# Altium integrated library Analog Devices RF IF Timing ICs and Clocks.IntLib: 168 symbols (part 16 of 18)
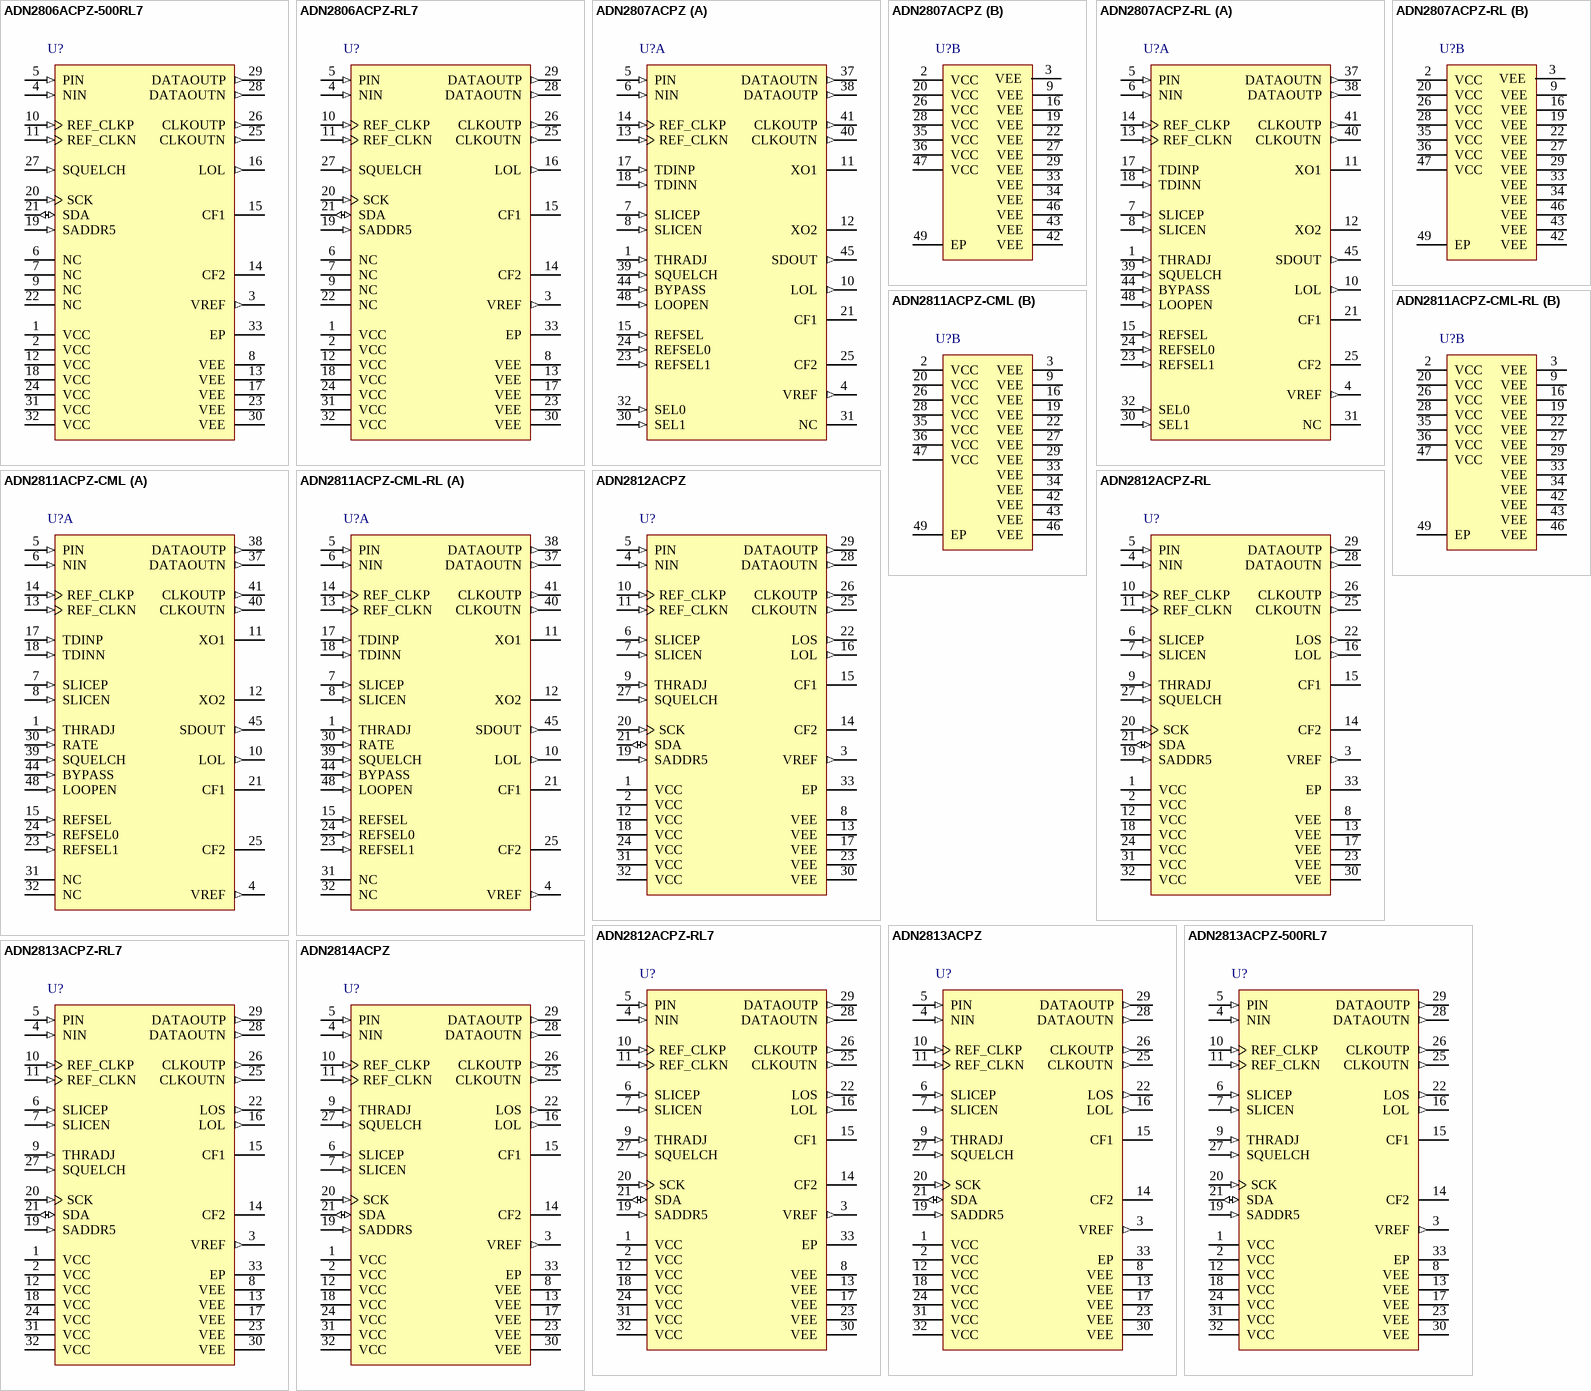
[diagram p30: symbols ADN2806ACPZ-500RL7 to ADN2814ACPZ]

## ADN2811ACPZ-CML
designator U?
OC-48/OC-48 FEC Clock and Data Recovery IC with Integrated Limiting Amp, 2.7 Gb/s Data Rate, CP-48-1, 260 Tray; Voltage Supply (V): 3.3; Data Rate (Gb/s): 2.7; Input Sensitivity (mVp-p): 4; Jitter Tolerance (Ulpp): 1.0 @ 1 MHz; Jitter Transfer: 590 kHz @ OC48; Jitter Gen (mUI rms): 2; Rate: Single; Reference Clk: X; DatasheetVersion: Rev. B; PackageVersion: Jan-2005; PackageReference: CP-48-1; PackageDescription: 48-Lead Lead Frame Chip Scale Package [LFCSP_VQ]; Code_JEDEC: MO-220-VKKD-2; ComponentLink1Description: Manufacturer URL; ComponentLink1URL: www.analog.com; ComponentLink2Description: Datasheet; ComponentLink2URL: http://www.analog.com/static/imported-files/data_sheets/ADN2811.pdf; ComponentLink3Description: Package Specification; ComponentLink3URL: http://www.analog.com/static/imported-files/packages/PKG_PDF/LFCSP(CP)/CP-48/CP_48_1.pdf
footprint ADI-CP-48-1_N (QFN, 48-Leads, Body 7x7mm, Pitch 0.5mm, Thermal Pad 5.1x5.1mm, IPC Medium Density)
footprint ADI-CP-48-1_L (QFN, 48-Leads, Body 7x7mm, Pitch 0.5mm, Thermal Pad 5.1x5.1mm, IPC High Density)
footprint ADI-CP-48-1_M (QFN, 48-Leads, Body 7x7mm, Pitch 0.5mm, Thermal Pad 5.1x5.1mm, IPC Low Density)
part A pins: 1 THRADJ (in) "LOS Threshold Setting Resistor.", 4 VREF (out) "Internal VREF Voltage. Decouple to GND with a 0.1 uF capacitor.", 5 PIN (in) "Differential Data Input. CML.", 6 NIN (in) "Differential Data Input. CML.", 7 SLICEP (in) "Differential Slice Level Adjust Input.", 8 SLICEN (in) "Differential Slice Level Adjust Input.", 10 LOL (out) "Loss of Lock Indicator. LVTTL active high.", 11 XO1 "Crystal Oscillator.", 12 XO2 "Crystal Oscillator.", 13 REF_CLKN (in) "Differential REFCLK Input. LVTTL, LVCMOS, LVPECL, LVDS (LVPECL, LVDS only at 155.52 MHz).", 14 REF_CLKP (in) "Differential REFCLK Input. LVTTL, LVCMOS, LVPECL, LVDS (LVPECL, LVDS only at 155.52 MHz).", 15 REFSEL (in) "Reference Source Select. 0 = on-chip oscillator with external crystal; 1 = external clock source, LVTTL.", 17 TDINP (in) "Differential Test Data Input.", 18 TDINN (in) "Differential Test Data Input.", 21 CF1 "Frequency Loop Capacitor.", 23 REFSEL1 (in) "Reference Frequency Select (See Table 5) LVTTL.", 24 REFSEL0 (in) "Reference Frequency Select (See Table 5) LVTTL.", 25 CF2 "Frequency Loop Capacitor.", 30 RATE (in) "Data Rate Select (See Table 4) LVTTL.", 31 NC "No Connect.", 32 NC "No Connect.", 37 DATAOUTN (out) "Differential Retimed Data Output. CML.", 38 DATAOUTP (out) "Differential Retimed Data Output. CML.", 39 SQUELCH (in) "Disable Clock and Data Outputs. Active high. LVTTL.", 40 CLKOUTN (out) "Differential Recovered Clock Output. CML.", 41 CLKOUTP (out) "Differential Recovered Clock Output. CML.", 44 BYPASS (in) "Bypass CDR Mode. Active high. LVTTL", 45 SDOUT (out) "Loss of Signal Detect Output. Active high. LVTTL.", 48 LOOPEN (in) "Enable Test Data Inputs. Active high. LVTTL."
part B pins: 2 VCC (power) "Analog Supply.", 3 VEE (power) "Ground.", 9 VEE (power) "Ground.", 16 VEE (power) "Ground.", 19 VEE (power) "Ground.", 20 VCC (power) "Digital Supply.", 22 VEE (power) "Ground.", 26 VCC (power) "Analog Supply.", 27 VEE (power) "Ground.", 28 VCC (power) "Analog Supply.", 29 VEE (power) "Ground.", 33 VEE (power) "Ground.", 34 VEE (power) "Ground.", 35 VCC (power) "Output Driver Supply.", 36 VCC (power) "Output Driver Supply.", 42 VEE (power) "Ground.", 43 VEE (power) "Ground.", 46 VEE (power) "Ground.", 47 VCC (power) "Digital Supply.", 49 EP (power) "Expose Pad"

## ADN2811ACPZ-CML-RL
designator U?
OC-48/OC-48 FEC Clock and Data Recovery IC with Integrated Limiting Amp, 2.7 Gb/s Data Rate, CP-48-1, Reel; Voltage Supply (V): 3.3; Data Rate (Gb/s): 2.7; Input Sensitivity (mVp-p): 4; Jitter Tolerance (Ulpp): 1.0 @ 1 MHz; Jitter Transfer: 590 kHz @ OC48; Jitter Gen (mUI rms): 2; Rate: Single; Reference Clk: X; DatasheetVersion: Rev. B; PackageVersion: Jan-2005; PackageReference: CP-48-1; PackageDescription: 48-Lead Lead Frame Chip Scale Package [LFCSP_VQ]; Code_JEDEC: MO-220-VKKD-2; ComponentLink1Description: Manufacturer URL; ComponentLink1URL: www.analog.com; ComponentLink2Description: Datasheet; ComponentLink2URL: http://www.analog.com/static/imported-files/data_sheets/ADN2811.pdf; ComponentLink3Description: Package Specification; ComponentLink3URL: http://www.analog.com/static/imported-files/packages/PKG_PDF/LFCSP(CP)/CP-48/CP_48_1.pdf
footprint ADI-CP-48-1_N (QFN, 48-Leads, Body 7x7mm, Pitch 0.5mm, Thermal Pad 5.1x5.1mm, IPC Medium Density)
footprint ADI-CP-48-1_L (QFN, 48-Leads, Body 7x7mm, Pitch 0.5mm, Thermal Pad 5.1x5.1mm, IPC High Density)
footprint ADI-CP-48-1_M (QFN, 48-Leads, Body 7x7mm, Pitch 0.5mm, Thermal Pad 5.1x5.1mm, IPC Low Density)
part A pins: 1 THRADJ (in) "LOS Threshold Setting Resistor.", 4 VREF (out) "Internal VREF Voltage. Decouple to GND with a 0.1 uF capacitor.", 5 PIN (in) "Differential Data Input. CML.", 6 NIN (in) "Differential Data Input. CML.", 7 SLICEP (in) "Differential Slice Level Adjust Input.", 8 SLICEN (in) "Differential Slice Level Adjust Input.", 10 LOL (out) "Loss of Lock Indicator. LVTTL active high.", 11 XO1 "Crystal Oscillator.", 12 XO2 "Crystal Oscillator.", 13 REF_CLKN (in) "Differential REFCLK Input. LVTTL, LVCMOS, LVPECL, LVDS (LVPECL, LVDS only at 155.52 MHz).", 14 REF_CLKP (in) "Differential REFCLK Input. LVTTL, LVCMOS, LVPECL, LVDS (LVPECL, LVDS only at 155.52 MHz).", 15 REFSEL (in) "Reference Source Select. 0 = on-chip oscillator with external crystal; 1 = external clock source, LVTTL.", 17 TDINP (in) "Differential Test Data Input.", 18 TDINN (in) "Differential Test Data Input.", 21 CF1 "Frequency Loop Capacitor.", 23 REFSEL1 (in) "Reference Frequency Select (See Table 5) LVTTL.", 24 REFSEL0 (in) "Reference Frequency Select (See Table 5) LVTTL.", 25 CF2 "Frequency Loop Capacitor.", 30 RATE (in) "Data Rate Select (See Table 4) LVTTL.", 31 NC "No Connect.", 32 NC "No Connect.", 37 DATAOUTN (out) "Differential Retimed Data Output. CML.", 38 DATAOUTP (out) "Differential Retimed Data Output. CML.", 39 SQUELCH (in) "Disable Clock and Data Outputs. Active high. LVTTL.", 40 CLKOUTN (out) "Differential Recovered Clock Output. CML.", 41 CLKOUTP (out) "Differential Recovered Clock Output. CML.", 44 BYPASS (in) "Bypass CDR Mode. Active high. LVTTL", 45 SDOUT (out) "Loss of Signal Detect Output. Active high. LVTTL.", 48 LOOPEN (in) "Enable Test Data Inputs. Active high. LVTTL."
part B pins: 2 VCC (power) "Analog Supply.", 3 VEE (power) "Ground.", 9 VEE (power) "Ground.", 16 VEE (power) "Ground.", 19 VEE (power) "Ground.", 20 VCC (power) "Digital Supply.", 22 VEE (power) "Ground.", 26 VCC (power) "Analog Supply.", 27 VEE (power) "Ground.", 28 VCC (power) "Analog Supply.", 29 VEE (power) "Ground.", 33 VEE (power) "Ground.", 34 VEE (power) "Ground.", 35 VCC (power) "Output Driver Supply.", 36 VCC (power) "Output Driver Supply.", 42 VEE (power) "Ground.", 43 VEE (power) "Ground.", 46 VEE (power) "Ground.", 47 VCC (power) "Digital Supply.", 49 EP (power) "Expose Pad"

## ADN2812ACPZ
designator U?
Continuous Rate 12.3 Mb/s to 2.7 Gb/s Clock and Data Recovery IC with Integrated Limiting Amp, CP-32-2, Pb-Free, 490 Tray; Voltage Supply (V): 3.3; Data Rate (Gb/s): 2.7; Input Sensitivity (mVp-p): 6; Jitter Tolerance (Ulpp): 1.0 @ 1 MHz; Jitter Transfer: 490 kHz @ OC48; Jitter Gen (mUI rms): 1; Reference Clk: Optional; DatasheetVersion: Rev. D; PackageVersion: Jan-2005; PackageReference: CP-32-2; PackageDescription: 32-Lead Lead Frame Chip Scale Package [LFCSP_VQ]; Rate: Continuous; Code_JEDEC: MO-220-VHHD-2; ComponentLink1Description: Manufacturer URL; ComponentLink1URL: www.analog.com; ComponentLink2Description: Datasheet; ComponentLink2URL: http://www.analog.com/static/imported-files/data_sheets/ADN2812.pdf; ComponentLink3Description: Package Specification; ComponentLink3URL: http://www.analog.com/static/imported-files/packages/414143737956480539664569CP_32_2.pdf
footprint ADI-CP-32-2_N (QFN, 32-Leads, Body 5x5mm, Pitch 0.5mm, Thermal Pad 3.1x3.1mm, IPC Medium Density)
footprint ADI-CP-32-2_L (QFN, 32-Leads, Body 5x5mm, Pitch 0.5mm, Thermal Pad 3.1x3.1mm, IPC High Density)
footprint ADI-CP-32-2_M (QFN, 32-Leads, Body 5x5mm, Pitch 0.5mm, Thermal Pad 3.1x3.1mm, IPC Low Density)
pins: 1 VCC (power) "Connect to VCC", 2 VCC (power) "Power for Limiting Amplifier, LOS.", 3 VREF (out) "Internal VREF Voltage. Decouple to GND with a 0.1 uF capacitor.", 4 NIN (in) "Differential Data Input. CML.", 5 PIN (in) "Differential Data Input. CML.", 6 SLICEP (in) "Differential Slice Level Adjust Input.", 7 SLICEN (in) "Differential Slice Level Adjust Input", 8 VEE (power) "GND for Limiting Amplifier, LOS.", 9 THRADJ (in) "LOS Threshold Setting Resistor.", 10 REF_CLKP (in) "Differential REFCLK Input. 10 MHz to 160 MHz.", 11 REF_CLKN (in) "Differential REFCLK Input. 10 MHz to 160 MHz.", 12 VCC (power) "VCO Power.", 13 VEE (power) "VCO GND.", 14 CF2 "Frequency Loop Capacitor.", 15 CF1 "Frequency Loop Capacitor.", 16 LOL (out) "Frequency Loop Capacitor.", 17 VEE (power) "FLL Detector GND.", 18 VCC (power) "FLL Detector Power.", 19 SADDR5 (in) "Slave Address Bit 5.", 20 SCK (in) "I2C Clock Input.", 21 SDA (io) "I2C Data Input.", 22 LOS (out) "Loss-of-Signal Detect Output. Active high. LVTTL.", 23 VEE (power) "Output Buffer, I2C GND.", 24 VCC (power) "Output Buffer, I2C Power.", 25 CLKOUTN (out) "Differential Recovered Clock Output. LVDS.", 26 CLKOUTP (out) "Differential Recovered Clock Output. LVDS.", 27 SQUELCH (in) "Disable Clock and Data Outputs. Active high. LVTTL.", 28 DATAOUTN (out) "Differential Recovered Data Output. LVDS.", 29 DATAOUTP (out) "Differential Recovered Data Output. LVDS.", 30 VEE (power) "Phase Detector, Phase Shifter GND.", 31 VCC (power) "Phase Detector, Phase Shifter Power.", 32 VCC (power) "Connect to VCC", 33 EP (power) "Connect to GND. Works as a heat sink."

## ADN2812ACPZ-RL
designator U?
Continuous Rate 12.3 Mb/s to 2.7 Gb/s Clock and Data Recovery IC with Integrated Limiting Amp, CP-32-2, Pb-Free, 5000 Reel; Voltage Supply (V): 3.3; Data Rate (Gb/s): 2.7; Input Sensitivity (mVp-p): 6; Jitter Tolerance (Ulpp): 1.0 @ 1 MHz; Jitter Transfer: 490 kHz @ OC48; Jitter Gen (mUI rms): 1; Reference Clk: Optional; DatasheetVersion: Rev. D; PackageVersion: Jan-2005; PackageReference: CP-32-2; PackageDescription: 32-Lead Lead Frame Chip Scale Package [LFCSP_VQ]; Rate: Continuous; Code_JEDEC: MO-220-VHHD-2; ComponentLink1Description: Manufacturer URL; ComponentLink1URL: www.analog.com; ComponentLink2Description: Datasheet; ComponentLink2URL: http://www.analog.com/static/imported-files/data_sheets/ADN2812.pdf; ComponentLink3Description: Package Specification; ComponentLink3URL: http://www.analog.com/static/imported-files/packages/414143737956480539664569CP_32_2.pdf
footprint ADI-CP-32-2_N (QFN, 32-Leads, Body 5x5mm, Pitch 0.5mm, Thermal Pad 3.1x3.1mm, IPC Medium Density)
footprint ADI-CP-32-2_L (QFN, 32-Leads, Body 5x5mm, Pitch 0.5mm, Thermal Pad 3.1x3.1mm, IPC High Density)
footprint ADI-CP-32-2_M (QFN, 32-Leads, Body 5x5mm, Pitch 0.5mm, Thermal Pad 3.1x3.1mm, IPC Low Density)
pins: 1 VCC (power) "Connect to VCC", 2 VCC (power) "Power for Limiting Amplifier, LOS.", 3 VREF (out) "Internal VREF Voltage. Decouple to GND with a 0.1 uF capacitor.", 4 NIN (in) "Differential Data Input. CML.", 5 PIN (in) "Differential Data Input. CML.", 6 SLICEP (in) "Differential Slice Level Adjust Input.", 7 SLICEN (in) "Differential Slice Level Adjust Input", 8 VEE (power) "GND for Limiting Amplifier, LOS.", 9 THRADJ (in) "LOS Threshold Setting Resistor.", 10 REF_CLKP (in) "Differential REFCLK Input. 10 MHz to 160 MHz.", 11 REF_CLKN (in) "Differential REFCLK Input. 10 MHz to 160 MHz.", 12 VCC (power) "VCO Power.", 13 VEE (power) "VCO GND.", 14 CF2 "Frequency Loop Capacitor.", 15 CF1 "Frequency Loop Capacitor.", 16 LOL (out) "Frequency Loop Capacitor.", 17 VEE (power) "FLL Detector GND.", 18 VCC (power) "FLL Detector Power.", 19 SADDR5 (in) "Slave Address Bit 5.", 20 SCK (in) "I2C Clock Input.", 21 SDA (io) "I2C Data Input.", 22 LOS (out) "Loss-of-Signal Detect Output. Active high. LVTTL.", 23 VEE (power) "Output Buffer, I2C GND.", 24 VCC (power) "Output Buffer, I2C Power.", 25 CLKOUTN (out) "Differential Recovered Clock Output. LVDS.", 26 CLKOUTP (out) "Differential Recovered Clock Output. LVDS.", 27 SQUELCH (in) "Disable Clock and Data Outputs. Active high. LVTTL.", 28 DATAOUTN (out) "Differential Recovered Data Output. LVDS.", 29 DATAOUTP (out) "Differential Recovered Data Output. LVDS.", 30 VEE (power) "Phase Detector, Phase Shifter GND.", 31 VCC (power) "Phase Detector, Phase Shifter Power.", 32 VCC (power) "Connect to VCC", 33 EP (power) "Connect to GND. Works as a heat sink."

## ADN2812ACPZ-RL7
designator U?
Continuous Rate 12.3 Mb/s to 2.7 Gb/s Clock and Data Recovery IC with Integrated Limiting Amp, CP-32-2, Pb-Free, 1500 Reel; Voltage Supply (V): 3.3; Data Rate (Gb/s): 2.7; Input Sensitivity (mVp-p): 6; Jitter Tolerance (Ulpp): 1.0 @ 1 MHz; Jitter Transfer: 490 kHz @ OC48; Jitter Gen (mUI rms): 1; Reference Clk: Optional; DatasheetVersion: Rev. D; PackageVersion: Jan-2005; PackageReference: CP-32-2; PackageDescription: 32-Lead Lead Frame Chip Scale Package [LFCSP_VQ]; Rate: Continuous; Code_JEDEC: MO-220-VHHD-2; ComponentLink1Description: Manufacturer URL; ComponentLink1URL: www.analog.com; ComponentLink2Description: Datasheet; ComponentLink2URL: http://www.analog.com/static/imported-files/data_sheets/ADN2812.pdf; ComponentLink3Description: Package Specification; ComponentLink3URL: http://www.analog.com/static/imported-files/packages/414143737956480539664569CP_32_2.pdf
footprint ADI-CP-32-2_N (QFN, 32-Leads, Body 5x5mm, Pitch 0.5mm, Thermal Pad 3.1x3.1mm, IPC Medium Density)
footprint ADI-CP-32-2_L (QFN, 32-Leads, Body 5x5mm, Pitch 0.5mm, Thermal Pad 3.1x3.1mm, IPC High Density)
footprint ADI-CP-32-2_M (QFN, 32-Leads, Body 5x5mm, Pitch 0.5mm, Thermal Pad 3.1x3.1mm, IPC Low Density)
pins: 1 VCC (power) "Connect to VCC", 2 VCC (power) "Power for Limiting Amplifier, LOS.", 3 VREF (out) "Internal VREF Voltage. Decouple to GND with a 0.1 uF capacitor.", 4 NIN (in) "Differential Data Input. CML.", 5 PIN (in) "Differential Data Input. CML.", 6 SLICEP (in) "Differential Slice Level Adjust Input.", 7 SLICEN (in) "Differential Slice Level Adjust Input", 8 VEE (power) "GND for Limiting Amplifier, LOS.", 9 THRADJ (in) "LOS Threshold Setting Resistor.", 10 REF_CLKP (in) "Differential REFCLK Input. 10 MHz to 160 MHz.", 11 REF_CLKN (in) "Differential REFCLK Input. 10 MHz to 160 MHz.", 12 VCC (power) "VCO Power.", 13 VEE (power) "VCO GND.", 14 CF2 "Frequency Loop Capacitor.", 15 CF1 "Frequency Loop Capacitor.", 16 LOL (out) "Frequency Loop Capacitor.", 17 VEE (power) "FLL Detector GND.", 18 VCC (power) "FLL Detector Power.", 19 SADDR5 (in) "Slave Address Bit 5.", 20 SCK (in) "I2C Clock Input.", 21 SDA (io) "I2C Data Input.", 22 LOS (out) "Loss-of-Signal Detect Output. Active high. LVTTL.", 23 VEE (power) "Output Buffer, I2C GND.", 24 VCC (power) "Output Buffer, I2C Power.", 25 CLKOUTN (out) "Differential Recovered Clock Output. LVDS.", 26 CLKOUTP (out) "Differential Recovered Clock Output. LVDS.", 27 SQUELCH (in) "Disable Clock and Data Outputs. Active high. LVTTL.", 28 DATAOUTN (out) "Differential Recovered Data Output. LVDS.", 29 DATAOUTP (out) "Differential Recovered Data Output. LVDS.", 30 VEE (power) "Phase Detector, Phase Shifter GND.", 31 VCC (power) "Phase Detector, Phase Shifter Power.", 32 VCC (power) "Connect to VCC", 33 EP (power) "Connect to GND. Works as a heat sink."

## ADN2813ACPZ
designator U?
Continuous Rate 10 Mb/s to 1.25 Gb/s Clock and Data Recovery IC with Integrated Limiting Amp, CP-32-2, Pb-Free, 490 Tray; Voltage Supply (V): 3.3; Data Rate (Gb/s): 1.25; Input Sensitivity (mVp-p): 6; Jitter Tolerance (Ulpp): 1UI @ 637 kHz; Jitter Transfer: 71 kHz @ OC12; Jitter Gen (mUI rms): 1; Reference Clk: Optional; DatasheetVersion: Rev. B; PackageVersion: Jan-2005; PackageReference: CP-32-2; PackageDescription: 32-Lead Lead Frame Chip Scale Package [LFCSP_VQ]; Rate: Continuous; Code_JEDEC: MO-220-VHHD-2; ComponentLink1Description: Manufacturer URL; ComponentLink1URL: www.analog.com; ComponentLink2Description: Datasheet; ComponentLink2URL: http://www.analog.com/static/imported-files/data_sheets/ADN2813.pdf; ComponentLink3Description: Package Specification; ComponentLink3URL: http://www.analog.com/static/imported-files/packages/414143737956480539664569CP_32_2.pdf
footprint ADI-CP-32-2_N (QFN, 32-Leads, Body 5x5mm, Pitch 0.5mm, Thermal Pad 3.1x3.1mm, IPC Medium Density)
footprint ADI-CP-32-2_L (QFN, 32-Leads, Body 5x5mm, Pitch 0.5mm, Thermal Pad 3.1x3.1mm, IPC High Density)
footprint ADI-CP-32-2_M (QFN, 32-Leads, Body 5x5mm, Pitch 0.5mm, Thermal Pad 3.1x3.1mm, IPC Low Density)
pins: 1 VCC (power) "Connect to VCC", 2 VCC (power) "Power for Limiting Amplifier, LOS.", 3 VREF (out) "Internal VREF Voltage. Decouple to GND with a 0.1 uF capacitor.", 4 NIN (in) "Differential Data Input. CML.", 5 PIN (in) "Differential Data Input. CML.", 6 SLICEP (in) "Differential Slice Level Adjust Input.", 7 SLICEN (in) "Differential Slice Level Adjust Input", 8 VEE (power) "GND for Limiting Amplifier, LOS.", 9 THRADJ (in) "LOS Threshold Setting Resistor.", 10 REF_CLKP (in) "Differential REFCLK Input. 10 MHz to 160 MHz.", 11 REF_CLKN (in) "Differential REFCLK Input. 10 MHz to 160 MHz.", 12 VCC (power) "VCO Power.", 13 VEE (power) "VCO GND.", 14 CF2 "Frequency Loop Capacitor.", 15 CF1 "Frequency Loop Capacitor.", 16 LOL (out) "Frequency Loop Capacitor.", 17 VEE (power) "FLL Detector GND.", 18 VCC (power) "FLL Detector Power.", 19 SADDR5 (in) "Slave Address Bit 5.", 20 SCK (in) "I2C Clock Input.", 21 SDA (io) "I2C Data Input.", 22 LOS (out) "Loss-of-Signal Detect Output. Active high. LVTTL.", 23 VEE (power) "Output Buffer, I2C GND.", 24 VCC (power) "Output Buffer, I2C Power.", 25 CLKOUTN (out) "Differential Recovered Clock Output. LVDS.", 26 CLKOUTP (out) "Differential Recovered Clock Output. LVDS.", 27 SQUELCH (in) "Disable Clock and Data Outputs. Active high. LVTTL.", 28 DATAOUTN (out) "Differential Recovered Data Output. LVDS.", 29 DATAOUTP (out) "Differential Recovered Data Output. LVDS.", 30 VEE (power) "Phase Detector, Phase Shifter GND.", 31 VCC (power) "Phase Detector, Phase Shifter Power.", 32 VCC (power) "Connect to VCC", 33 EP (power) "Connect to GND. Works as a heat sink."

## ADN2813ACPZ-500RL7
designator U?
Continuous Rate 10 Mb/s to 1.25 Gb/s Clock and Data Recovery IC with Integrated Limiting Amp, CP-32-2, Pb-Free, 500 Reel; Voltage Supply (V): 3.3; Data Rate (Gb/s): 1.25; Input Sensitivity (mVp-p): 6; Jitter Tolerance (Ulpp): 1UI @ 637 kHz; Jitter Transfer: 71 kHz @ OC12; Jitter Gen (mUI rms): 1; Reference Clk: Optional; DatasheetVersion: Rev. B; PackageVersion: Jan-2005; PackageReference: CP-32-2; PackageDescription: 32-Lead Lead Frame Chip Scale Package [LFCSP_VQ]; Rate: Continuous; Code_JEDEC: MO-220-VHHD-2; ComponentLink1Description: Manufacturer URL; ComponentLink1URL: www.analog.com; ComponentLink2Description: Datasheet; ComponentLink2URL: http://www.analog.com/static/imported-files/data_sheets/ADN2813.pdf; ComponentLink3Description: Package Specification; ComponentLink3URL: http://www.analog.com/static/imported-files/packages/414143737956480539664569CP_32_2.pdf
footprint ADI-CP-32-2_N (QFN, 32-Leads, Body 5x5mm, Pitch 0.5mm, Thermal Pad 3.1x3.1mm, IPC Medium Density)
footprint ADI-CP-32-2_L (QFN, 32-Leads, Body 5x5mm, Pitch 0.5mm, Thermal Pad 3.1x3.1mm, IPC High Density)
footprint ADI-CP-32-2_M (QFN, 32-Leads, Body 5x5mm, Pitch 0.5mm, Thermal Pad 3.1x3.1mm, IPC Low Density)
pins: 1 VCC (power) "Connect to VCC", 2 VCC (power) "Power for Limiting Amplifier, LOS.", 3 VREF (out) "Internal VREF Voltage. Decouple to GND with a 0.1 uF capacitor.", 4 NIN (in) "Differential Data Input. CML.", 5 PIN (in) "Differential Data Input. CML.", 6 SLICEP (in) "Differential Slice Level Adjust Input.", 7 SLICEN (in) "Differential Slice Level Adjust Input", 8 VEE (power) "GND for Limiting Amplifier, LOS.", 9 THRADJ (in) "LOS Threshold Setting Resistor.", 10 REF_CLKP (in) "Differential REFCLK Input. 10 MHz to 160 MHz.", 11 REF_CLKN (in) "Differential REFCLK Input. 10 MHz to 160 MHz.", 12 VCC (power) "VCO Power.", 13 VEE (power) "VCO GND.", 14 CF2 "Frequency Loop Capacitor.", 15 CF1 "Frequency Loop Capacitor.", 16 LOL (out) "Frequency Loop Capacitor.", 17 VEE (power) "FLL Detector GND.", 18 VCC (power) "FLL Detector Power.", 19 SADDR5 (in) "Slave Address Bit 5.", 20 SCK (in) "I2C Clock Input.", 21 SDA (io) "I2C Data Input.", 22 LOS (out) "Loss-of-Signal Detect Output. Active high. LVTTL.", 23 VEE (power) "Output Buffer, I2C GND.", 24 VCC (power) "Output Buffer, I2C Power.", 25 CLKOUTN (out) "Differential Recovered Clock Output. LVDS.", 26 CLKOUTP (out) "Differential Recovered Clock Output. LVDS.", 27 SQUELCH (in) "Disable Clock and Data Outputs. Active high. LVTTL.", 28 DATAOUTN (out) "Differential Recovered Data Output. LVDS.", 29 DATAOUTP (out) "Differential Recovered Data Output. LVDS.", 30 VEE (power) "Phase Detector, Phase Shifter GND.", 31 VCC (power) "Phase Detector, Phase Shifter Power.", 32 VCC (power) "Connect to VCC", 33 EP (power) "Connect to GND. Works as a heat sink."

## ADN2813ACPZ-RL7
designator U?
Continuous Rate 10 Mb/s to 1.25 Gb/s Clock and Data Recovery IC with Integrated Limiting Amp, CP-32-2, Pb-Free, 1500 Reel; Voltage Supply (V): 3.3; Data Rate (Gb/s): 1.25; Input Sensitivity (mVp-p): 6; Jitter Tolerance (Ulpp): 1UI @ 637 kHz; Jitter Transfer: 71 kHz @ OC12; Jitter Gen (mUI rms): 1; Reference Clk: Optional; DatasheetVersion: Rev. B; PackageVersion: Jan-2005; PackageReference: CP-32-2; PackageDescription: 32-Lead Lead Frame Chip Scale Package [LFCSP_VQ]; Rate: Continuous; Code_JEDEC: MO-220-VHHD-2; ComponentLink1Description: Manufacturer URL; ComponentLink1URL: www.analog.com; ComponentLink2Description: Datasheet; ComponentLink2URL: http://www.analog.com/static/imported-files/data_sheets/ADN2813.pdf; ComponentLink3Description: Package Specification; ComponentLink3URL: http://www.analog.com/static/imported-files/packages/414143737956480539664569CP_32_2.pdf
footprint ADI-CP-32-2_N (QFN, 32-Leads, Body 5x5mm, Pitch 0.5mm, Thermal Pad 3.1x3.1mm, IPC Medium Density)
footprint ADI-CP-32-2_L (QFN, 32-Leads, Body 5x5mm, Pitch 0.5mm, Thermal Pad 3.1x3.1mm, IPC High Density)
footprint ADI-CP-32-2_M (QFN, 32-Leads, Body 5x5mm, Pitch 0.5mm, Thermal Pad 3.1x3.1mm, IPC Low Density)
pins: 1 VCC (power) "Connect to VCC", 2 VCC (power) "Power for Limiting Amplifier, LOS.", 3 VREF (out) "Internal VREF Voltage. Decouple to GND with a 0.1 uF capacitor.", 4 NIN (in) "Differential Data Input. CML.", 5 PIN (in) "Differential Data Input. CML.", 6 SLICEP (in) "Differential Slice Level Adjust Input.", 7 SLICEN (in) "Differential Slice Level Adjust Input", 8 VEE (power) "GND for Limiting Amplifier, LOS.", 9 THRADJ (in) "LOS Threshold Setting Resistor.", 10 REF_CLKP (in) "Differential REFCLK Input. 10 MHz to 160 MHz.", 11 REF_CLKN (in) "Differential REFCLK Input. 10 MHz to 160 MHz.", 12 VCC (power) "VCO Power.", 13 VEE (power) "VCO GND.", 14 CF2 "Frequency Loop Capacitor.", 15 CF1 "Frequency Loop Capacitor.", 16 LOL (out) "Frequency Loop Capacitor.", 17 VEE (power) "FLL Detector GND.", 18 VCC (power) "FLL Detector Power.", 19 SADDR5 (in) "Slave Address Bit 5.", 20 SCK (in) "I2C Clock Input.", 21 SDA (io) "I2C Data Input.", 22 LOS (out) "Loss-of-Signal Detect Output. Active high. LVTTL.", 23 VEE (power) "Output Buffer, I2C GND.", 24 VCC (power) "Output Buffer, I2C Power.", 25 CLKOUTN (out) "Differential Recovered Clock Output. LVDS.", 26 CLKOUTP (out) "Differential Recovered Clock Output. LVDS.", 27 SQUELCH (in) "Disable Clock and Data Outputs. Active high. LVTTL.", 28 DATAOUTN (out) "Differential Recovered Data Output. LVDS.", 29 DATAOUTP (out) "Differential Recovered Data Output. LVDS.", 30 VEE (power) "Phase Detector, Phase Shifter GND.", 31 VCC (power) "Phase Detector, Phase Shifter Power.", 32 VCC (power) "Connect to VCC", 33 EP (power) "Connect to GND. Works as a heat sink."

## ADN2814ACPZ
designator U?
Continuous Rate 10 Mb/s to 675 Mb/s Clock and Data Recovery IC with Integrated Limiting Amp, CP-32-2, Pb-Free, 490 Tray; Voltage Supply (V): 3.3; Data Rate (Gb/s): 0.675; Jitter Tolerance (Ulpp): 1.0 @ 250 kHz; Jitter Transfer: 75 kHz @ OC12; Jitter Gen (mUI rms): 1; Reference Clk: Optional; DatasheetVersion: Rev. B; PackageVersion: Jan-2005; PackageReference: CP-32-2; PackageDescription: 32-Lead Lead Frame Chip Scale Package [LFCSP_VQ]; Input Sensitivity (mVp-p): 3.3; Rate: Continuous; Code_JEDEC: MO-220-VHHD-2; ComponentLink1Description: Manufacturer URL; ComponentLink1URL: www.analog.com; ComponentLink2Description: Datasheet; ComponentLink2URL: http://www.analog.com/static/imported-files/data_sheets/ADN2814.pdf; ComponentLink3Description: Package Specification; ComponentLink3URL: http://www.analog.com/static/imported-files/packages/414143737956480539664569CP_32_2.pdf
footprint ADI-CP-32-2_N (QFN, 32-Leads, Body 5x5mm, Pitch 0.5mm, Thermal Pad 3.1x3.1mm, IPC Medium Density)
footprint ADI-CP-32-2_L (QFN, 32-Leads, Body 5x5mm, Pitch 0.5mm, Thermal Pad 3.1x3.1mm, IPC High Density)
footprint ADI-CP-32-2_M (QFN, 32-Leads, Body 5x5mm, Pitch 0.5mm, Thermal Pad 3.1x3.1mm, IPC Low Density)
pins: 1 VCC (power) "Connect to VCC.", 2 VCC (power) "Power for Limiting Amplifier, LOS.", 3 VREF (out) "Internal VREF Voltage. Decouple to GND with a 0.1 uF capacitor.", 4 NIN (in) "Differential Data Input. CML.", 5 PIN (in) "Differential Data Input. CML.", 6 SLICEP (in) "Differential Slice Level Adjust Input", 7 SLICEN (in) "Differential Slice Level Adjust Input", 8 VEE (power) "GND for Limiting Amplifier, LOS.", 9 THRADJ (in) "LOS Threshold Setting Resistor", 10 REF_CLKP (in) "Differential REFCLK Input. 10 MHz to 160 MHz.", 11 REF_CLKN (in) "Differential REFCLK Input. 10 MHz to 160 MHz.", 12 VCC (power) "VCO Power.", 13 VEE (power) "VCO GND.", 14 CF2 "Frequency Loop Capacitor", 15 CF1 "Frequency Loop Capacitor", 16 LOL (out) "Loss-of-Lock Indicator. LVTTL active high.", 17 VEE (power) "FLL Detector GND.", 18 VCC (power) "FLL Detector Power.", 19 SADDRS (in) "Slave Address Bit 5.", 20 SCK (in) "I2C Clock Input.", 21 SDA (io) "I2C Data Input", 22 LOS (out) "Loss-of-Signal Detect Output. Active high. LVTTL", 23 VEE (power) "Output Buffer, I2C GND.", 24 VCC (power) "Output Buffer, I2C Power.", 25 CLKOUTN (out) "Differential Recovered Clock Output. LVDS.", 26 CLKOUTP (out) "Differential Recovered Clock Output. LVDS.", 27 SQUELCH (in) "Disable Clock and Data Outputs. Active high. LVTTL.", 28 DATAOUTN (out) "Differential Recovered Data Output. LVDS", 29 DATAOUTP (out) "Differential Recovered Data Output. LVDS", 30 VEE (power) "Phase Detector, Phase Shifter GND", 31 VCC (power) "Phase Detector, Phase Shifter Power", 32 VCC (power) "Connect to VCC.", 33 EP (power) "Connect to GND. Works as a heat sink."

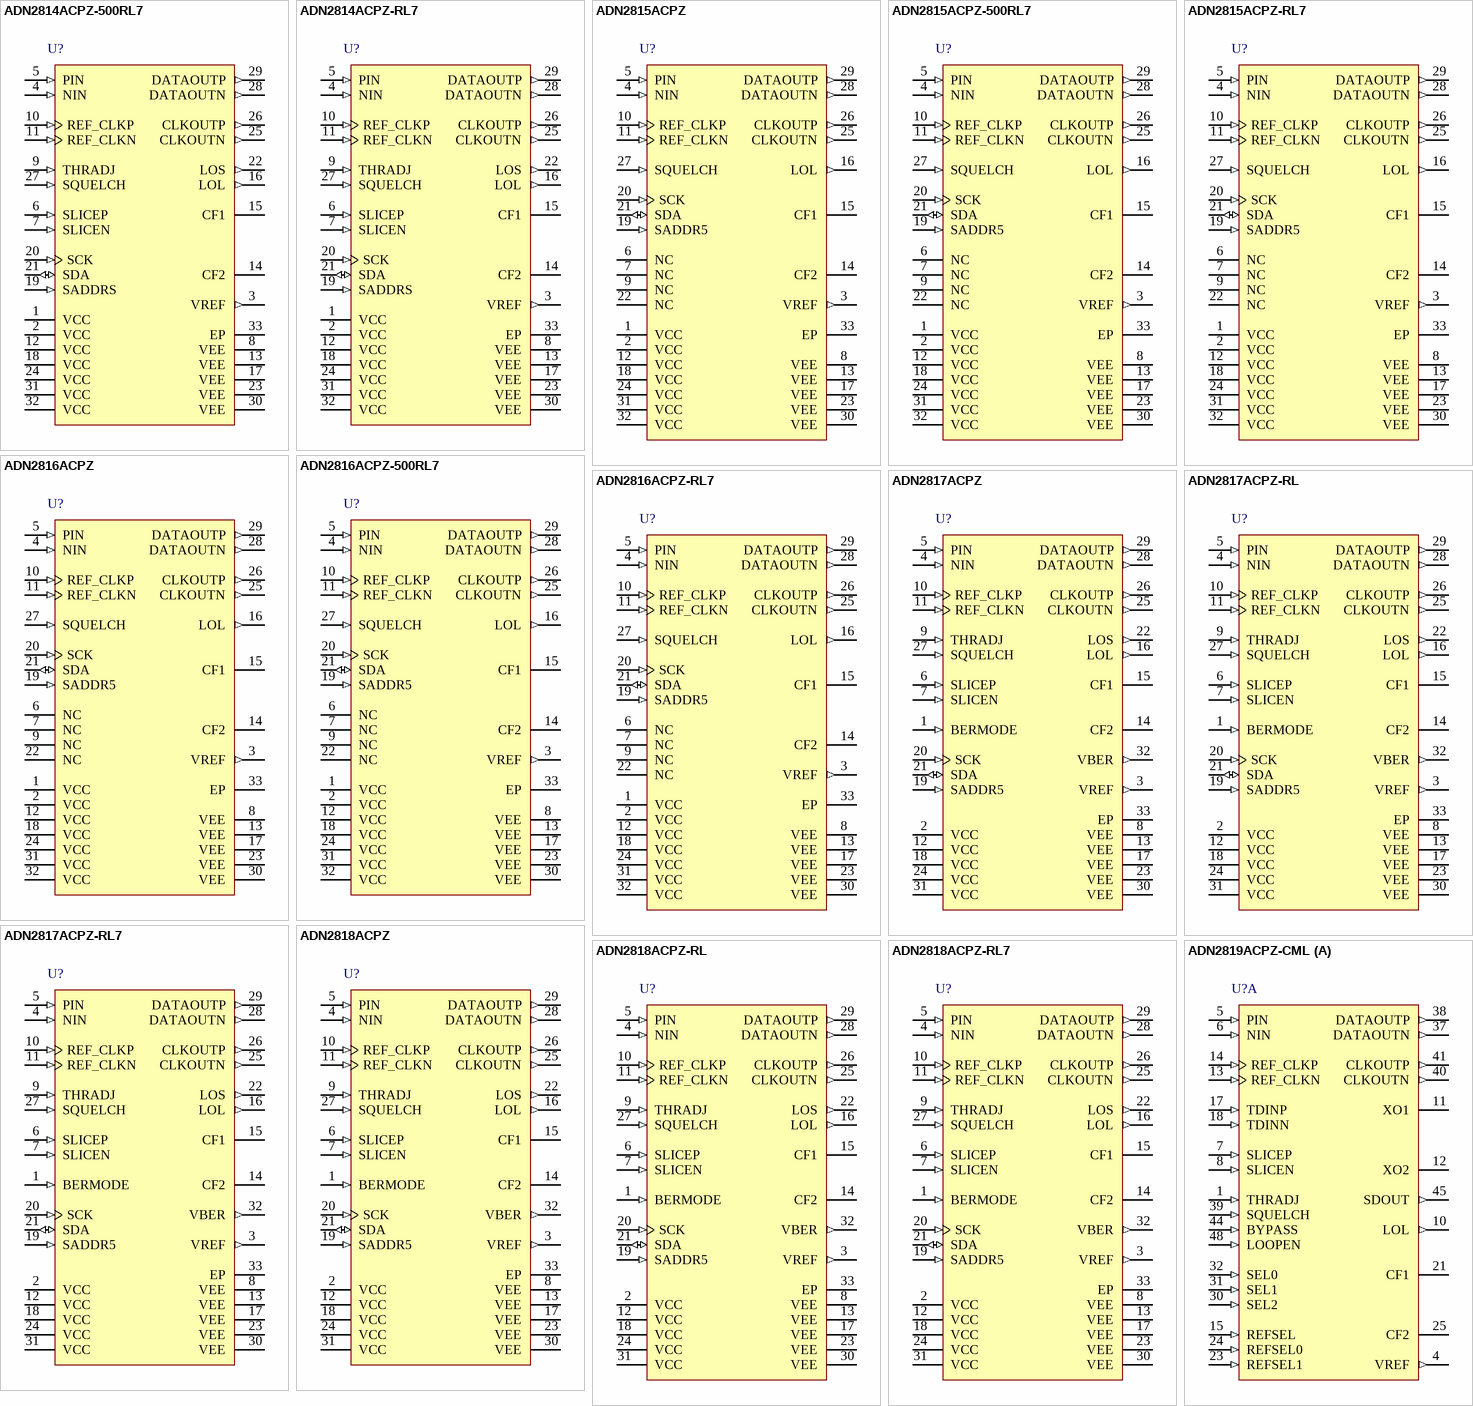
[diagram p14: symbols ADN2814ACPZ-500RL7 to ADN2819ACPZ-CML]

## ADN2814ACPZ-500RL7
designator U?
Continuous Rate 10 Mb/s to 675 Mb/s Clock and Data Recovery IC with Integrated Limiting Amp, CP-32-2, Pb-Free, 500 Reel; Voltage Supply (V): 3.3; Data Rate (Gb/s): 0.675; Jitter Tolerance (Ulpp): 1.0 @ 250 kHz; Jitter Transfer: 75 kHz @ OC12; Jitter Gen (mUI rms): 1; Reference Clk: Optional; DatasheetVersion: Rev. B; PackageVersion: Jan-2005; PackageReference: CP-32-2; PackageDescription: 32-Lead Lead Frame Chip Scale Package [LFCSP_VQ]; Input Sensitivity (mVp-p): 3.3; Rate: Continuous; Code_JEDEC: MO-220-VHHD-2; ComponentLink1Description: Manufacturer URL; ComponentLink1URL: www.analog.com; ComponentLink2Description: Datasheet; ComponentLink2URL: http://www.analog.com/static/imported-files/data_sheets/ADN2814.pdf; ComponentLink3Description: Package Specification; ComponentLink3URL: http://www.analog.com/static/imported-files/packages/414143737956480539664569CP_32_2.pdf
footprint ADI-CP-32-2_N (QFN, 32-Leads, Body 5x5mm, Pitch 0.5mm, Thermal Pad 3.1x3.1mm, IPC Medium Density)
footprint ADI-CP-32-2_L (QFN, 32-Leads, Body 5x5mm, Pitch 0.5mm, Thermal Pad 3.1x3.1mm, IPC High Density)
footprint ADI-CP-32-2_M (QFN, 32-Leads, Body 5x5mm, Pitch 0.5mm, Thermal Pad 3.1x3.1mm, IPC Low Density)
pins: 1 VCC (power) "Connect to VCC.", 2 VCC (power) "Power for Limiting Amplifier, LOS.", 3 VREF (out) "Internal VREF Voltage. Decouple to GND with a 0.1 uF capacitor.", 4 NIN (in) "Differential Data Input. CML.", 5 PIN (in) "Differential Data Input. CML.", 6 SLICEP (in) "Differential Slice Level Adjust Input", 7 SLICEN (in) "Differential Slice Level Adjust Input", 8 VEE (power) "GND for Limiting Amplifier, LOS.", 9 THRADJ (in) "LOS Threshold Setting Resistor", 10 REF_CLKP (in) "Differential REFCLK Input. 10 MHz to 160 MHz.", 11 REF_CLKN (in) "Differential REFCLK Input. 10 MHz to 160 MHz.", 12 VCC (power) "VCO Power.", 13 VEE (power) "VCO GND.", 14 CF2 "Frequency Loop Capacitor", 15 CF1 "Frequency Loop Capacitor", 16 LOL (out) "Loss-of-Lock Indicator. LVTTL active high.", 17 VEE (power) "FLL Detector GND.", 18 VCC (power) "FLL Detector Power.", 19 SADDRS (in) "Slave Address Bit 5.", 20 SCK (in) "I2C Clock Input.", 21 SDA (io) "I2C Data Input", 22 LOS (out) "Loss-of-Signal Detect Output. Active high. LVTTL", 23 VEE (power) "Output Buffer, I2C GND.", 24 VCC (power) "Output Buffer, I2C Power.", 25 CLKOUTN (out) "Differential Recovered Clock Output. LVDS.", 26 CLKOUTP (out) "Differential Recovered Clock Output. LVDS.", 27 SQUELCH (in) "Disable Clock and Data Outputs. Active high. LVTTL.", 28 DATAOUTN (out) "Differential Recovered Data Output. LVDS", 29 DATAOUTP (out) "Differential Recovered Data Output. LVDS", 30 VEE (power) "Phase Detector, Phase Shifter GND", 31 VCC (power) "Phase Detector, Phase Shifter Power", 32 VCC (power) "Connect to VCC.", 33 EP (power) "Connect to GND. Works as a heat sink."

## ADN2814ACPZ-RL7
designator U?
Continuous Rate 10 Mb/s to 675 Mb/s Clock and Data Recovery IC with Integrated Limiting Amp, CP-32-2, Pb-Free, 1500 Reel; Voltage Supply (V): 3.3; Data Rate (Gb/s): 0.675; Jitter Tolerance (Ulpp): 1.0 @ 250 kHz; Jitter Transfer: 75 kHz @ OC12; Jitter Gen (mUI rms): 1; Reference Clk: Optional; DatasheetVersion: Rev. B; PackageVersion: Jan-2005; PackageReference: CP-32-2; PackageDescription: 32-Lead Lead Frame Chip Scale Package [LFCSP_VQ]; Input Sensitivity (mVp-p): 3.3; Rate: Continuous; Code_JEDEC: MO-220-VHHD-2; ComponentLink1Description: Manufacturer URL; ComponentLink1URL: www.analog.com; ComponentLink2Description: Datasheet; ComponentLink2URL: http://www.analog.com/static/imported-files/data_sheets/ADN2814.pdf; ComponentLink3Description: Package Specification; ComponentLink3URL: http://www.analog.com/static/imported-files/packages/414143737956480539664569CP_32_2.pdf
footprint ADI-CP-32-2_N (QFN, 32-Leads, Body 5x5mm, Pitch 0.5mm, Thermal Pad 3.1x3.1mm, IPC Medium Density)
footprint ADI-CP-32-2_L (QFN, 32-Leads, Body 5x5mm, Pitch 0.5mm, Thermal Pad 3.1x3.1mm, IPC High Density)
footprint ADI-CP-32-2_M (QFN, 32-Leads, Body 5x5mm, Pitch 0.5mm, Thermal Pad 3.1x3.1mm, IPC Low Density)
pins: 1 VCC (power) "Connect to VCC.", 2 VCC (power) "Power for Limiting Amplifier, LOS.", 3 VREF (out) "Internal VREF Voltage. Decouple to GND with a 0.1 uF capacitor.", 4 NIN (in) "Differential Data Input. CML.", 5 PIN (in) "Differential Data Input. CML.", 6 SLICEP (in) "Differential Slice Level Adjust Input", 7 SLICEN (in) "Differential Slice Level Adjust Input", 8 VEE (power) "GND for Limiting Amplifier, LOS.", 9 THRADJ (in) "LOS Threshold Setting Resistor", 10 REF_CLKP (in) "Differential REFCLK Input. 10 MHz to 160 MHz.", 11 REF_CLKN (in) "Differential REFCLK Input. 10 MHz to 160 MHz.", 12 VCC (power) "VCO Power.", 13 VEE (power) "VCO GND.", 14 CF2 "Frequency Loop Capacitor", 15 CF1 "Frequency Loop Capacitor", 16 LOL (out) "Loss-of-Lock Indicator. LVTTL active high.", 17 VEE (power) "FLL Detector GND.", 18 VCC (power) "FLL Detector Power.", 19 SADDRS (in) "Slave Address Bit 5.", 20 SCK (in) "I2C Clock Input.", 21 SDA (io) "I2C Data Input", 22 LOS (out) "Loss-of-Signal Detect Output. Active high. LVTTL", 23 VEE (power) "Output Buffer, I2C GND.", 24 VCC (power) "Output Buffer, I2C Power.", 25 CLKOUTN (out) "Differential Recovered Clock Output. LVDS.", 26 CLKOUTP (out) "Differential Recovered Clock Output. LVDS.", 27 SQUELCH (in) "Disable Clock and Data Outputs. Active high. LVTTL.", 28 DATAOUTN (out) "Differential Recovered Data Output. LVDS", 29 DATAOUTP (out) "Differential Recovered Data Output. LVDS", 30 VEE (power) "Phase Detector, Phase Shifter GND", 31 VCC (power) "Phase Detector, Phase Shifter Power", 32 VCC (power) "Connect to VCC.", 33 EP (power) "Connect to GND. Works as a heat sink."

## ADN2815ACPZ
designator U?
Continuous Rate 10 Mb/s to 1.25 Gb/s Clock and Data Recovery IC, CP-32-2, Pb-Free, 490 Tray; Voltage Supply (V): 3.3; Data Rate (Gb/s): 1.25; Input Sensitivity (mVp-p): 200; Jitter Tolerance (Ulpp): 1.0 @ 250 kHz; Jitter Transfer: 71 kHz @ OC12; Jitter Gen (mUI rms): 1; Reference Clk: Optional; DatasheetVersion: Rev. B; PackageVersion: Jan-2005; PackageReference: CP-32-2; PackageDescription: 32-Lead Lead Frame Chip Scale Package [LFCSP_VQ]; Rate: Continuous; Code_JEDEC: MO-220-VHHD-2; ComponentLink1Description: Manufacturer URL; ComponentLink1URL: www.analog.com; ComponentLink2Description: Datasheet; ComponentLink2URL: http://www.analog.com/static/imported-files/data_sheets/ADN2815.pdf; ComponentLink3Description: Package Specification; ComponentLink3URL: http://www.analog.com/static/imported-files/packages/414143737956480539664569CP_32_2.pdf
footprint ADI-CP-32-2_N (QFN, 32-Leads, Body 5x5mm, Pitch 0.5mm, Thermal Pad 3.1x3.1mm, IPC Medium Density)
footprint ADI-CP-32-2_L (QFN, 32-Leads, Body 5x5mm, Pitch 0.5mm, Thermal Pad 3.1x3.1mm, IPC High Density)
footprint ADI-CP-32-2_M (QFN, 32-Leads, Body 5x5mm, Pitch 0.5mm, Thermal Pad 3.1x3.1mm, IPC Low Density)
pins: 1 VCC (power) "Connect to VCC.", 2 VCC (power) "Power for Limiting Amplifier, LOS.", 3 VREF (out) "Internal VREF Voltage. Decouple to GND with a 0.1 uF capacitor.", 4 NIN (in) "Differential Data Input. CML.", 5 PIN (in) "Differential Data Input. CML.", 6 NC "No Connect.", 7 NC "No Connect.", 8 VEE (power) "GND for Limiting Amplifier, LOS.", 9 NC "No Connect", 10 REF_CLKP (in) "Differential REFCLK Input. 10 MHz to 160 MHz.", 11 REF_CLKN (in) "Differential REFCLK Input. 10 MHz to 160 MHz.", 12 VCC (power) "VCO Power.", 13 VEE (power) "VCO GND.", 14 CF2 "Frequency Loop Capacitor", 15 CF1 "Frequency Loop Capacitor", 16 LOL (out) "Loss-of-Lock Indicator. LVTTL active high.", 17 VEE (power) "FLL Detector GND.", 18 VCC (power) "FLL Detector Power.", 19 SADDR5 (in) "Slave Address Bit 5.", 20 SCK (in) "I2C Clock Input.", 21 SDA (io) "I2C Data Input.", 22 NC "No Connect.", 23 VEE (power) "Output Buffer, I2C GND.", 24 VCC (power) "Output Buffer, I2C Power", 25 CLKOUTN (out) "Differential Recovered Clock Output. LVDS.", 26 CLKOUTP (out) "Differential Recovered Clock Output. LVDS.", 27 SQUELCH (in) "Disable Clock and Data Outputs. Active high. LVTTL", 28 DATAOUTN (out) "Differential Recovered Data Output. LVDS.", 29 DATAOUTP (out) "Differential Recovered Data Output. LVDS.", 30 VEE (power) "Phase Detector, Phase Shifter GND", 31 VCC (power) "Phase Detector, Phase Shifter Power.", 32 VCC (power) "Connect to VCC.", 33 EP (power) "Connect to GND. Works as a heat sink."

## ADN2815ACPZ-500RL7
designator U?
Continuous Rate 10 Mb/s to 1.25 Gb/s Clock and Data Recovery IC, CP-32-2, Pb-Free, 500 Reel; Voltage Supply (V): 3.3; Data Rate (Gb/s): 1.25; Input Sensitivity (mVp-p): 200; Jitter Tolerance (Ulpp): 1.0 @ 250 kHz; Jitter Transfer: 71 kHz @ OC12; Jitter Gen (mUI rms): 1; Reference Clk: Optional; DatasheetVersion: Rev. B; PackageVersion: Jan-2005; PackageReference: CP-32-2; PackageDescription: 32-Lead Lead Frame Chip Scale Package [LFCSP_VQ]; Rate: Continuous; Code_JEDEC: MO-220-VHHD-2; ComponentLink1Description: Manufacturer URL; ComponentLink1URL: www.analog.com; ComponentLink2Description: Datasheet; ComponentLink2URL: http://www.analog.com/static/imported-files/data_sheets/ADN2815.pdf; ComponentLink3Description: Package Specification; ComponentLink3URL: http://www.analog.com/static/imported-files/packages/414143737956480539664569CP_32_2.pdf
footprint ADI-CP-32-2_N (QFN, 32-Leads, Body 5x5mm, Pitch 0.5mm, Thermal Pad 3.1x3.1mm, IPC Medium Density)
footprint ADI-CP-32-2_L (QFN, 32-Leads, Body 5x5mm, Pitch 0.5mm, Thermal Pad 3.1x3.1mm, IPC High Density)
footprint ADI-CP-32-2_M (QFN, 32-Leads, Body 5x5mm, Pitch 0.5mm, Thermal Pad 3.1x3.1mm, IPC Low Density)
pins: 1 VCC (power) "Connect to VCC.", 2 VCC (power) "Power for Limiting Amplifier, LOS.", 3 VREF (out) "Internal VREF Voltage. Decouple to GND with a 0.1 uF capacitor.", 4 NIN (in) "Differential Data Input. CML.", 5 PIN (in) "Differential Data Input. CML.", 6 NC "No Connect.", 7 NC "No Connect.", 8 VEE (power) "GND for Limiting Amplifier, LOS.", 9 NC "No Connect", 10 REF_CLKP (in) "Differential REFCLK Input. 10 MHz to 160 MHz.", 11 REF_CLKN (in) "Differential REFCLK Input. 10 MHz to 160 MHz.", 12 VCC (power) "VCO Power.", 13 VEE (power) "VCO GND.", 14 CF2 "Frequency Loop Capacitor", 15 CF1 "Frequency Loop Capacitor", 16 LOL (out) "Loss-of-Lock Indicator. LVTTL active high.", 17 VEE (power) "FLL Detector GND.", 18 VCC (power) "FLL Detector Power.", 19 SADDR5 (in) "Slave Address Bit 5.", 20 SCK (in) "I2C Clock Input.", 21 SDA (io) "I2C Data Input.", 22 NC "No Connect.", 23 VEE (power) "Output Buffer, I2C GND.", 24 VCC (power) "Output Buffer, I2C Power", 25 CLKOUTN (out) "Differential Recovered Clock Output. LVDS.", 26 CLKOUTP (out) "Differential Recovered Clock Output. LVDS.", 27 SQUELCH (in) "Disable Clock and Data Outputs. Active high. LVTTL", 28 DATAOUTN (out) "Differential Recovered Data Output. LVDS.", 29 DATAOUTP (out) "Differential Recovered Data Output. LVDS.", 30 VEE (power) "Phase Detector, Phase Shifter GND", 31 VCC (power) "Phase Detector, Phase Shifter Power.", 32 VCC (power) "Connect to VCC.", 33 EP (power) "Connect to GND. Works as a heat sink."

## ADN2815ACPZ-RL7
designator U?
Continuous Rate 10 Mb/s to 1.25 Gb/s Clock and Data Recovery IC, CP-32-2, Pb-Free, 1500 Reel; Voltage Supply (V): 3.3; Data Rate (Gb/s): 1.25; Input Sensitivity (mVp-p): 200; Jitter Tolerance (Ulpp): 1.0 @ 250 kHz; Jitter Transfer: 71 kHz @ OC12; Jitter Gen (mUI rms): 1; Reference Clk: Optional; DatasheetVersion: Rev. B; PackageVersion: Jan-2005; PackageReference: CP-32-2; PackageDescription: 32-Lead Lead Frame Chip Scale Package [LFCSP_VQ]; Rate: Continuous; Code_JEDEC: MO-220-VHHD-2; ComponentLink1Description: Manufacturer URL; ComponentLink1URL: www.analog.com; ComponentLink2Description: Datasheet; ComponentLink2URL: http://www.analog.com/static/imported-files/data_sheets/ADN2815.pdf; ComponentLink3Description: Package Specification; ComponentLink3URL: http://www.analog.com/static/imported-files/packages/414143737956480539664569CP_32_2.pdf
footprint ADI-CP-32-2_N (QFN, 32-Leads, Body 5x5mm, Pitch 0.5mm, Thermal Pad 3.1x3.1mm, IPC Medium Density)
footprint ADI-CP-32-2_L (QFN, 32-Leads, Body 5x5mm, Pitch 0.5mm, Thermal Pad 3.1x3.1mm, IPC High Density)
footprint ADI-CP-32-2_M (QFN, 32-Leads, Body 5x5mm, Pitch 0.5mm, Thermal Pad 3.1x3.1mm, IPC Low Density)
pins: 1 VCC (power) "Connect to VCC.", 2 VCC (power) "Power for Limiting Amplifier, LOS.", 3 VREF (out) "Internal VREF Voltage. Decouple to GND with a 0.1 uF capacitor.", 4 NIN (in) "Differential Data Input. CML.", 5 PIN (in) "Differential Data Input. CML.", 6 NC "No Connect.", 7 NC "No Connect.", 8 VEE (power) "GND for Limiting Amplifier, LOS.", 9 NC "No Connect", 10 REF_CLKP (in) "Differential REFCLK Input. 10 MHz to 160 MHz.", 11 REF_CLKN (in) "Differential REFCLK Input. 10 MHz to 160 MHz.", 12 VCC (power) "VCO Power.", 13 VEE (power) "VCO GND.", 14 CF2 "Frequency Loop Capacitor", 15 CF1 "Frequency Loop Capacitor", 16 LOL (out) "Loss-of-Lock Indicator. LVTTL active high.", 17 VEE (power) "FLL Detector GND.", 18 VCC (power) "FLL Detector Power.", 19 SADDR5 (in) "Slave Address Bit 5.", 20 SCK (in) "I2C Clock Input.", 21 SDA (io) "I2C Data Input.", 22 NC "No Connect.", 23 VEE (power) "Output Buffer, I2C GND.", 24 VCC (power) "Output Buffer, I2C Power", 25 CLKOUTN (out) "Differential Recovered Clock Output. LVDS.", 26 CLKOUTP (out) "Differential Recovered Clock Output. LVDS.", 27 SQUELCH (in) "Disable Clock and Data Outputs. Active high. LVTTL", 28 DATAOUTN (out) "Differential Recovered Data Output. LVDS.", 29 DATAOUTP (out) "Differential Recovered Data Output. LVDS.", 30 VEE (power) "Phase Detector, Phase Shifter GND", 31 VCC (power) "Phase Detector, Phase Shifter Power.", 32 VCC (power) "Connect to VCC.", 33 EP (power) "Connect to GND. Works as a heat sink."

## ADN2816ACPZ
designator U?
Continuous Rate 10 Mb/s to 675 Mb/s Clock and Data Recovery IC, CP-32-2, Pb-Free, 490 Tray; Voltage Supply (V): 3.3; Data Rate (Gb/s): 0.675; Input Sensitivity (mVp-p): 200; Jitter Tolerance (Ulpp): 1.0 @ 250 kHz; Jitter Transfer: 71 kHz @ OC12; Jitter Gen (mUI rms): 1; Reference Clk: Optional; DatasheetVersion: Rev. B; PackageVersion: Jan-2005; PackageReference: CP-32-2; PackageDescription: 32-Lead Lead Frame Chip Scale Package [LFCSP_VQ]; Rate: Continuous; Code_JEDEC: MO-220-VHHD-2; ComponentLink1Description: Manufacturer URL; ComponentLink1URL: www.analog.com; ComponentLink2Description: Datasheet; ComponentLink2URL: http://www.analog.com/static/imported-files/data_sheets/ADN2816.pdf; ComponentLink3Description: Package Specification; ComponentLink3URL: http://www.analog.com/static/imported-files/packages/414143737956480539664569CP_32_2.pdf
footprint ADI-CP-32-2_N (QFN, 32-Leads, Body 5x5mm, Pitch 0.5mm, Thermal Pad 3.1x3.1mm, IPC Medium Density)
footprint ADI-CP-32-2_L (QFN, 32-Leads, Body 5x5mm, Pitch 0.5mm, Thermal Pad 3.1x3.1mm, IPC High Density)
footprint ADI-CP-32-2_M (QFN, 32-Leads, Body 5x5mm, Pitch 0.5mm, Thermal Pad 3.1x3.1mm, IPC Low Density)
pins: 1 VCC (power) "Connect to VCC.", 2 VCC (power) "Power for Limiting Amplifier, LOS.", 3 VREF (out) "Internal VREF Voltage. Decouple to GND with a 0.1 uF capacitor.", 4 NIN (in) "Differential Data Input. CML.", 5 PIN (in) "Differential Data Input. CML.", 6 NC "No Connect", 7 NC "No Connect", 8 VEE (power) "GND for Limiting Amplifier, LOS.", 9 NC "No Connect", 10 REF_CLKP (in) "Differential REFCLK Input. 10 MHz to 160 MHz.", 11 REF_CLKN (in) "Differential REFCLK Input. 10 MHz to 160 MHz.", 12 VCC (power) "VCO Power.", 13 VEE (power) "VCO GND.", 14 CF2 "Frequency Loop Capacitor.", 15 CF1 "Frequency Loop Capacitor.", 16 LOL (out) "Loss-of-Lock Indicator. LVTTL active high.", 17 VEE (power) "FLL Detector GND.", 18 VCC (power) "FLL Detector Power.", 19 SADDR5 (in) "Slave Address Bit 5.", 20 SCK (in) "I2C Clock Input.", 21 SDA (io) "I2C Data Input.", 22 NC "No Connect", 23 VEE (power) "Output Buffer, I2C GND.", 24 VCC (power) "Output Buffer, I2C Power.", 25 CLKOUTN (out) "Differential Recovered Clock Output. LVDS.", 26 CLKOUTP (out) "Differential Recovered Clock Output. LVDS.", 27 SQUELCH (in) "Disable Clock and Data Outputs. Active high. LVTTL.", 28 DATAOUTN (out) "Differential Recovered Data Output. LVDS.", 29 DATAOUTP (out) "Differential Recovered Data Output. LVDS.", 30 VEE (power) "Phase Detector, Phase Shifter GND.", 31 VCC (power) "Phase Detector, Phase Shifter Power.", 32 VCC (power) "Connect to VCC.", 33 EP (power) "Connect to GND. Works as a heat sink."

## ADN2816ACPZ-500RL7
designator U?
Continuous Rate 10 Mb/s to 675 Mb/s Clock and Data Recovery IC, CP-32-2, Pb-Free, 500 Reel; Voltage Supply (V): 3.3; Data Rate (Gb/s): 0.675; Input Sensitivity (mVp-p): 200; Jitter Tolerance (Ulpp): 1.0 @ 250 kHz; Jitter Transfer: 71 kHz @ OC12; Jitter Gen (mUI rms): 1; Reference Clk: Optional; DatasheetVersion: Rev. B; PackageVersion: Jan-2005; PackageReference: CP-32-2; PackageDescription: 32-Lead Lead Frame Chip Scale Package [LFCSP_VQ]; Rate: Continuous; Code_JEDEC: MO-220-VHHD-2; ComponentLink1Description: Manufacturer URL; ComponentLink1URL: www.analog.com; ComponentLink2Description: Datasheet; ComponentLink2URL: http://www.analog.com/static/imported-files/data_sheets/ADN2816.pdf; ComponentLink3Description: Package Specification; ComponentLink3URL: http://www.analog.com/static/imported-files/packages/414143737956480539664569CP_32_2.pdf
footprint ADI-CP-32-2_N (QFN, 32-Leads, Body 5x5mm, Pitch 0.5mm, Thermal Pad 3.1x3.1mm, IPC Medium Density)
footprint ADI-CP-32-2_L (QFN, 32-Leads, Body 5x5mm, Pitch 0.5mm, Thermal Pad 3.1x3.1mm, IPC High Density)
footprint ADI-CP-32-2_M (QFN, 32-Leads, Body 5x5mm, Pitch 0.5mm, Thermal Pad 3.1x3.1mm, IPC Low Density)
pins: 1 VCC (power) "Connect to VCC.", 2 VCC (power) "Power for Limiting Amplifier, LOS.", 3 VREF (out) "Internal VREF Voltage. Decouple to GND with a 0.1 uF capacitor.", 4 NIN (in) "Differential Data Input. CML.", 5 PIN (in) "Differential Data Input. CML.", 6 NC "No Connect", 7 NC "No Connect", 8 VEE (power) "GND for Limiting Amplifier, LOS.", 9 NC "No Connect", 10 REF_CLKP (in) "Differential REFCLK Input. 10 MHz to 160 MHz.", 11 REF_CLKN (in) "Differential REFCLK Input. 10 MHz to 160 MHz.", 12 VCC (power) "VCO Power.", 13 VEE (power) "VCO GND.", 14 CF2 "Frequency Loop Capacitor.", 15 CF1 "Frequency Loop Capacitor.", 16 LOL (out) "Loss-of-Lock Indicator. LVTTL active high.", 17 VEE (power) "FLL Detector GND.", 18 VCC (power) "FLL Detector Power.", 19 SADDR5 (in) "Slave Address Bit 5.", 20 SCK (in) "I2C Clock Input.", 21 SDA (io) "I2C Data Input.", 22 NC "No Connect", 23 VEE (power) "Output Buffer, I2C GND.", 24 VCC (power) "Output Buffer, I2C Power.", 25 CLKOUTN (out) "Differential Recovered Clock Output. LVDS.", 26 CLKOUTP (out) "Differential Recovered Clock Output. LVDS.", 27 SQUELCH (in) "Disable Clock and Data Outputs. Active high. LVTTL.", 28 DATAOUTN (out) "Differential Recovered Data Output. LVDS.", 29 DATAOUTP (out) "Differential Recovered Data Output. LVDS.", 30 VEE (power) "Phase Detector, Phase Shifter GND.", 31 VCC (power) "Phase Detector, Phase Shifter Power.", 32 VCC (power) "Connect to VCC.", 33 EP (power) "Connect to GND. Works as a heat sink."

## ADN2816ACPZ-RL7
designator U?
Continuous Rate 10 Mb/s to 675 Mb/s Clock and Data Recovery IC, CP-32-2, Pb-Free, 1500 Reel; Voltage Supply (V): 3.3; Data Rate (Gb/s): 0.675; Input Sensitivity (mVp-p): 200; Jitter Tolerance (Ulpp): 1.0 @ 250 kHz; Jitter Transfer: 71 kHz @ OC12; Jitter Gen (mUI rms): 1; Reference Clk: Optional; DatasheetVersion: Rev. B; PackageVersion: Jan-2005; PackageReference: CP-32-2; PackageDescription: 32-Lead Lead Frame Chip Scale Package [LFCSP_VQ]; Rate: Continuous; Code_JEDEC: MO-220-VHHD-2; ComponentLink1Description: Manufacturer URL; ComponentLink1URL: www.analog.com; ComponentLink2Description: Datasheet; ComponentLink2URL: http://www.analog.com/static/imported-files/data_sheets/ADN2816.pdf; ComponentLink3Description: Package Specification; ComponentLink3URL: http://www.analog.com/static/imported-files/packages/414143737956480539664569CP_32_2.pdf
footprint ADI-CP-32-2_N (QFN, 32-Leads, Body 5x5mm, Pitch 0.5mm, Thermal Pad 3.1x3.1mm, IPC Medium Density)
footprint ADI-CP-32-2_L (QFN, 32-Leads, Body 5x5mm, Pitch 0.5mm, Thermal Pad 3.1x3.1mm, IPC High Density)
footprint ADI-CP-32-2_M (QFN, 32-Leads, Body 5x5mm, Pitch 0.5mm, Thermal Pad 3.1x3.1mm, IPC Low Density)
pins: 1 VCC (power) "Connect to VCC.", 2 VCC (power) "Power for Limiting Amplifier, LOS.", 3 VREF (out) "Internal VREF Voltage. Decouple to GND with a 0.1 uF capacitor.", 4 NIN (in) "Differential Data Input. CML.", 5 PIN (in) "Differential Data Input. CML.", 6 NC "No Connect", 7 NC "No Connect", 8 VEE (power) "GND for Limiting Amplifier, LOS.", 9 NC "No Connect", 10 REF_CLKP (in) "Differential REFCLK Input. 10 MHz to 160 MHz.", 11 REF_CLKN (in) "Differential REFCLK Input. 10 MHz to 160 MHz.", 12 VCC (power) "VCO Power.", 13 VEE (power) "VCO GND.", 14 CF2 "Frequency Loop Capacitor.", 15 CF1 "Frequency Loop Capacitor.", 16 LOL (out) "Loss-of-Lock Indicator. LVTTL active high.", 17 VEE (power) "FLL Detector GND.", 18 VCC (power) "FLL Detector Power.", 19 SADDR5 (in) "Slave Address Bit 5.", 20 SCK (in) "I2C Clock Input.", 21 SDA (io) "I2C Data Input.", 22 NC "No Connect", 23 VEE (power) "Output Buffer, I2C GND.", 24 VCC (power) "Output Buffer, I2C Power.", 25 CLKOUTN (out) "Differential Recovered Clock Output. LVDS.", 26 CLKOUTP (out) "Differential Recovered Clock Output. LVDS.", 27 SQUELCH (in) "Disable Clock and Data Outputs. Active high. LVTTL.", 28 DATAOUTN (out) "Differential Recovered Data Output. LVDS.", 29 DATAOUTP (out) "Differential Recovered Data Output. LVDS.", 30 VEE (power) "Phase Detector, Phase Shifter GND.", 31 VCC (power) "Phase Detector, Phase Shifter Power.", 32 VCC (power) "Connect to VCC.", 33 EP (power) "Connect to GND. Works as a heat sink."